# Altium schematic symbol library PDU_YEDEK.SchLib: 83 symbols (part 6 of 10)
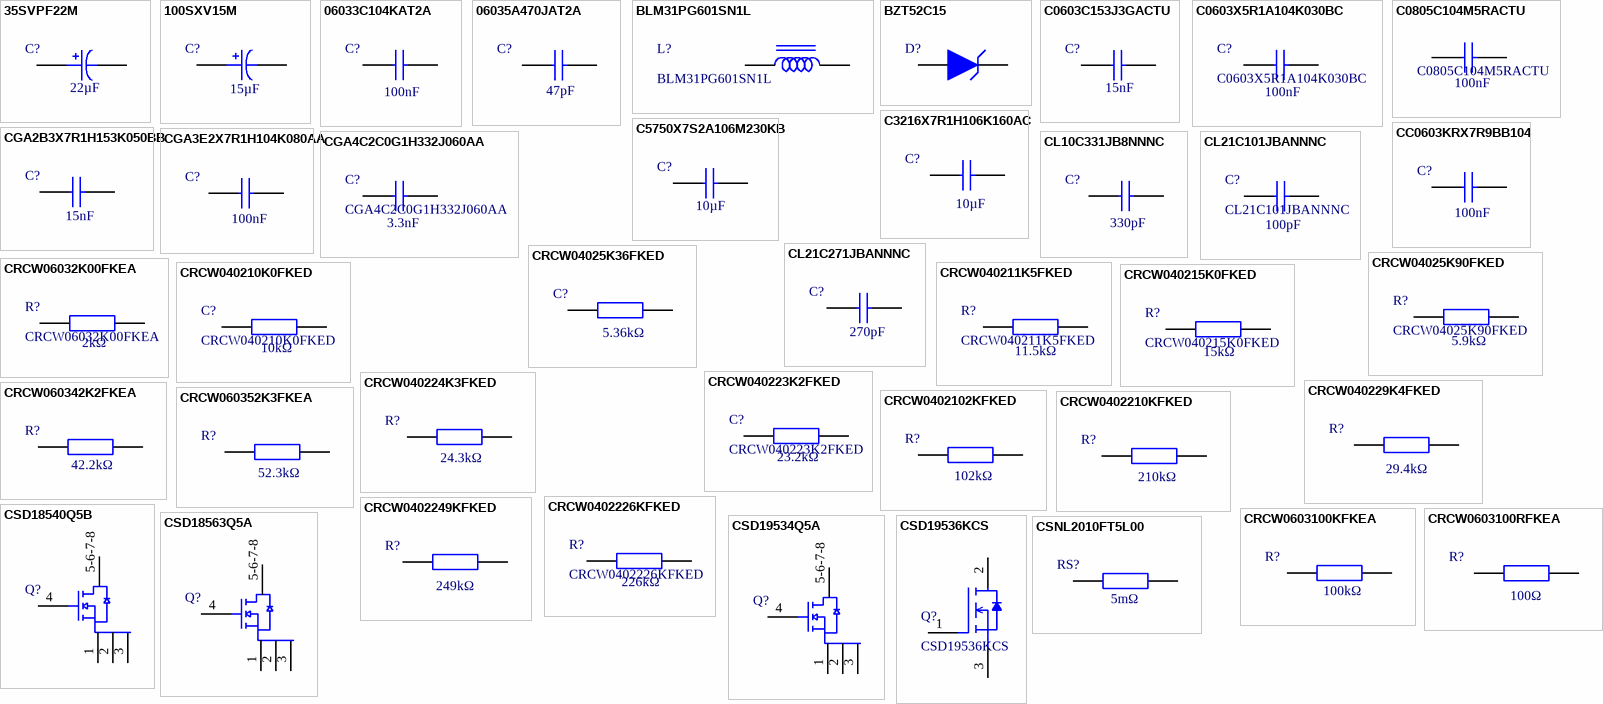
[diagram p7: symbols 35SVPF22M to CSNL2010FT5L00]

## CSD18540Q5B
designator Q?  (value not drawn)
60-V, N channel NexFET™ power MOSFET, single SON 5 mm x 6 mm, 2.2 mOhm 8-VSON-CLIP -55 to 175; Manufacturer: Texas Instruments; Manufacturer Lifecycle Status: ACTIVE; Continuous Drain Current (ID): 29A; Drain to Source Resistance: 1.8mΩ; Drain to Source Voltage (Vdss): 60V; Fall Time: 3ns; Gate to Source Voltage (Vgs): 20V; Input Capacitance: 4.23nF; Max Junction Temperature (Tj): 175°C; Max Power Dissipation: 3.1W; Number of Channels: 1; Power Dissipation: 3.8W; Rds On Max: 2.2mΩ; Rise Time: 9ns; Turn-Off Delay Time: 20ns; Turn-On Delay Time: 6ns; Supplier: Arrow Electronics; Supplier Part Number: CSD18540Q5B; Manufacturer Part Number: CSD18540Q5B; RoHS: Compliant; Category: MOSFETs; Stock: 867; Pricing: 1=2,6866, 10=1,8382, 25=1,8215, 100=1,293, 250=1,2821, 500=1,0204 (USD); Contact Plating: Gold; Element Configuration: Single; Height: 0m; Lead Free: Contains Lead; Length: 5mm; Lifecycle Status: Production; Max Operating Temperature: 175°C; Min Operating Temperature: -55°C; Mounting Technology: Surface Mount; Pins: 8; Packaging: Tape & Reel (TR); Schedule B: 8541290080, 8541290080|8541290080|8541290080|8541290080|8541290080; Thickness: 950µm; Width: 5mm; ComponentLink1URL: https://datasheet.octopart.com:443/CSD18540Q5B-Texas-Instruments-datasheet-41215267.pdf?src-supplier=Texas+Instruments; ComponentLink1Description: https://datasheet.octopart.com:443/CSD18540Q5B-Texas-Instruments-datasheet-41215267.pdf?src-supplier=Texas+Instruments; ComponentLink2URL: https://octopart.com:443/opatz8j6/c1?t=SUskelIlBWIo_nWBJiAx1_ldGWU3oeiOn-EJs-5do1YusiS-JDvlKRrouVl-Y20ao-5z_08mEvz_AeJefeF_pOrLs0WfjhDJ2_xgnnOXWDpra4Cd3mKzckoQ6QanCMAXyB-vVCGNjBMeeyDAJ_8AtgWzG5J-VV0M2AC15IA14uOxBYYbIO1uRZi3YsibPr8OpLgj2-g8ey3MShCBBxtcPxAJXU9zClIpSD2jte82BFzbVJ9hhAzdJsrLZ3RNwxiUfmRI5v2vfH2Xq2tWnkVJNmbpw4R6VYt-2jb8TG9SzpqJvWz5ux_mibd2tkPbQSuE4I96mnLqjONPYMf24_myiaENOmBZXsZhO5Lu3rDJDhrEeNYScROBq6ZJRXBJXpuxfZxAZ_Uv9q79&src-supplier=Texas+Instruments; ComponentLink2Description: https://octopart.com:443/opatz8j6/c1?t=SUskelIlBWIo_nWBJiAx1_ldGWU3oeiOn-EJs-5do1YusiS-JDvlKRrouVl-Y20ao-5z_08mEvz_AeJefeF_pOrLs0WfjhDJ2_xgnnOXWDpra4Cd3mKzckoQ6QanCMAXyB-vVCGNjBMeeyDAJ_8AtgWzG5J-VV0M2AC15IA14uOxBYYbIO1uRZi3YsibPr8OpLgj2-g8ey3MShCBBxtcPxAJXU9zClIpSD2jte82BFzbVJ9hhAzdJsrLZ3RNwxiUfmRI5v2vfH2Xq2tWnkVJNmbpw4R6VYt-2jb8TG9SzpqJvWz5ux_mibd2tkPbQSuE4I96mnLqjONPYMf24_myiaENOmBZXsZhO5Lu3rDJDhrEeNYScROBq6ZJRXBJXpuxfZxAZ_Uv9q79&src-supplier=Texas+Instruments; ComponentLink3URL: https://datasheet.octopart.com:443/CSD18540Q5B-Texas-Instruments-datasheet-27303987.pdf?src-supplier=Texas+Instruments; ComponentLink3Description: https://datasheet.octopart.com:443/CSD18540Q5B-Texas-Instruments-datasheet-27303987.pdf?src-supplier=Texas+Instruments; ComponentLink4URL: https://datasheet.octopart.com:443/CSD18540Q5B-Texas-Instruments-datasheet-145028107.pdf?src-supplier=Arrow.cn; ComponentLink4Description: https://datasheet.octopart.com:443/CSD18540Q5B-Texas-Instruments-datasheet-145028107.pdf?src-supplier=Arrow.cn; ComponentLink5URL: http://sigma.octopart.com:80/reach_statement/Texas-Instruments-company-64.pdf?src-supplier=Compliance+Statements; ComponentLink5Description: http://sigma.octopart.com:80/reach_statement/Texas-Instruments-company-64.pdf?src-supplier=Compliance+Statements; ComponentLink6URL: http://sigma.octopart.com:80/conflict_mineral_statement/Texas-Instruments-company-63.pdf?src-supplier=Compliance+Statements; ComponentLink6Description: http://sigma.octopart.com:80/conflict_mineral_statement/Texas-Instruments-company-63.pdf?src-supplier=Compliance+Statements
pins: 1 S, 2 S, 3 S, 4 G, 5-6-7-8 D

## CSD18563Q5A
designator Q?  (value not drawn)
60-V, N channel NexFET™ power MOSFET, single SON 5 mm x 6 mm, 6.8 mOhm 8-VSONP -55 to 150; Manufacturer: Texas Instruments; Manufacturer Lifecycle Status: ACTIVE; Continuous Drain Current (ID): 15A; Drain to Source Breakdown Voltage: 60V; Drain to Source Resistance: 5.7mΩ; Fall Time: 1.7ns; Gate to Source Voltage (Vgs): 20V; Input Capacitance: 1.5nF; Max Junction Temperature (Tj): 150°C; Max Power Dissipation: 3.2W; Nominal Vgs: 2V; Number of Channels: 1; Rds On Max: 6.8mΩ; Rise Time: 6.3ns; Turn-Off Delay Time: 11.4ns; Turn-On Delay Time: 3.2ns; Supplier: Arrow Electronics; Supplier Part Number: CSD18563Q5A; Manufacturer Part Number: CSD18563Q5A; RoHS: Compliant; Category: MOSFETs; Stock: 310; Pricing: 1=1,8015, 10=1,1755, 25=1,153, 100=0,7897, 250=0,4809 (USD); Case/Package: SMD/SMT; Contact Plating: Tin; Drain to Source Voltage (Vdss): 60V; Element Configuration: Single; Height: 1.1mm; Lead Free: Contains Lead; Length: 4.9mm; Lifecycle Status: Production; Max Operating Temperature: 150°C; Min Operating Temperature: -55°C; Mounting Technology: Surface Mount; Number of Elements: 1; Pins: 8; Power Dissipation: 3.2W; REACH SVHC: No; Schedule B: 8541290080, 8541290080|8541290080|8541290080|8541290080|8541290080; Thickness: 1mm; Threshold Voltage: 2V; Width: 6mm; ComponentLink1URL: https://sigma.octopart.com:443/184372194/technical_drawing/Texas-Instruments-CSD18563Q5A.pdf?src-supplier=Texas+Instruments; ComponentLink1Description: https://sigma.octopart.com:443/184372194/technical_drawing/Texas-Instruments-CSD18563Q5A.pdf?src-supplier=Texas+Instruments; ComponentLink2URL: https://octopart.com:443/opatz8j6/c1?t=cDlHP-nwod-UrTS5MQLBpnpDYKU81KfXZd0WIxwHVyDluJBsD-qzddP2QWeYshZMVLFvn-XXXUKwo92E12vZ99vTC2tuXrARVDgOfcVWHlEWklqGN5tuVZ0larHJnItfrHBea9QDmv9vipM55Nvz6p-GjLR-rQwE0UZqnFc0Fzik9ED-naljrhRUinUxGXB2zY_Vm7YgAsUc4yyz_KvlWjbFS2EmqwPzcjQvljt88dnThRaGs5pTcMpNDCZ9sQhtjnDwdEPZWIy2Ed_tCU4jqxfdHRCg7_eWsHlZMWqOTd8HLFQ2xB1v7dbSuqbTagO1wEqc8I0-XetWFPjRjBDhhXWC8TqTZ-VysNuLBAr14a3cqhDsGdgDzKCCn-w2NiCMrzY4ccQXQDbT&src-supplier=Texas+Instruments; ComponentLink2Description: https://octopart.com:443/opatz8j6/c1?t=cDlHP-nwod-UrTS5MQLBpnpDYKU81KfXZd0WIxwHVyDluJBsD-qzddP2QWeYshZMVLFvn-XXXUKwo92E12vZ99vTC2tuXrARVDgOfcVWHlEWklqGN5tuVZ0larHJnItfrHBea9QDmv9vipM55Nvz6p-GjLR-rQwE0UZqnFc0Fzik9ED-naljrhRUinUxGXB2zY_Vm7YgAsUc4yyz_KvlWjbFS2EmqwPzcjQvljt88dnThRaGs5pTcMpNDCZ9sQhtjnDwdEPZWIy2Ed_tCU4jqxfdHRCg7_eWsHlZMWqOTd8HLFQ2xB1v7dbSuqbTagO1wEqc8I0-XetWFPjRjBDhhXWC8TqTZ-VysNuLBAr14a3cqhDsGdgDzKCCn-w2NiCMrzY4ccQXQDbT&src-supplier=Texas+Instruments; ComponentLink3URL: https://sigma.octopart.com:443/183468693/technical_drawing/Texas-Instruments-CSD18563Q5A.pdf?src-supplier=Texas+Instruments; ComponentLink3Description: https://sigma.octopart.com:443/183468693/technical_drawing/Texas-Instruments-CSD18563Q5A.pdf?src-supplier=Texas+Instruments; ComponentLink4URL: https://datasheet.octopart.com:443/CSD18563Q5A-Texas-Instruments-datasheet-36993140.pdf?src-supplier=Texas+Instruments; ComponentLink4Description: https://datasheet.octopart.com:443/CSD18563Q5A-Texas-Instruments-datasheet-36993140.pdf?src-supplier=Texas+Instruments; ComponentLink5URL: https://datasheet.octopart.com:443/CSD18563Q5A-Texas-Instruments-datasheet-21773002.pdf?src-supplier=Texas+Instruments; ComponentLink5Description: https://datasheet.octopart.com:443/CSD18563Q5A-Texas-Instruments-datasheet-21773002.pdf?src-supplier=Texas+Instruments; ComponentLink6URL: https://datasheet.octopart.com:443/CSD18563Q5A-Texas-Instruments-datasheet-16941254.pdf?src-supplier=Texas+Instruments; ComponentLink6Description: https://datasheet.octopart.com:443/CSD18563Q5A-Texas-Instruments-datasheet-16941254.pdf?src-supplier=Texas+Instruments; ComponentLink7URL: https://datasheet.octopart.com:443/CSD18563Q5A-Texas-Instruments-datasheet-41215268.pdf?src-supplier=Farnell; ComponentLink7Description: https://datasheet.octopart.com:443/CSD18563Q5A-Texas-Instruments-datasheet-41215268.pdf?src-supplier=Farnell; ComponentLink8URL: https://datasheet.octopart.com:443/CSD18563Q5A-Texas-Instruments-datasheet-97084075.pdf?src-supplier=Newark; ComponentLink8Description: https://datasheet.octopart.com:443/CSD18563Q5A-Texas-Instruments-datasheet-97084075.pdf?src-supplier=Newark; ComponentLink9URL: https://datasheet.octopart.com:443/CSD18563Q5A-Texas-Instruments-datasheet-62115722.pdf?src-supplier=Newark; ComponentLink9Description: https://datasheet.octopart.com:443/CSD18563Q5A-Texas-Instruments-datasheet-62115722.pdf?src-supplier=Newark; ComponentLink10URL: https://datasheet.octopart.com:443/CSD18563Q5A-Texas-Instruments-datasheet-33010040.pdf?src-supplier=Newark; ComponentLink10Description: https://datasheet.octopart.com:443/CSD18563Q5A-Texas-Instruments-datasheet-33010040.pdf?src-supplier=Newark; ComponentLink11URL: https://datasheet.octopart.com:443/CSD18563Q5A-Texas-Instruments-datasheet-21220899.pdf?src-supplier=Newark; ComponentLink11Description: https://datasheet.octopart.com:443/CSD18563Q5A-Texas-Instruments-datasheet-21220899.pdf?src-supplier=Newark; ComponentLink12URL: https://datasheet.octopart.com:443/CSD18563Q5A-Texas-Instruments-datasheet-164413840.pdf?src-supplier=Augswan; ComponentLink12Description: https://datasheet.octopart.com:443/CSD18563Q5A-Texas-Instruments-datasheet-164413840.pdf?src-supplier=Augswan; ComponentLink13URL: https://datasheet.octopart.com:443/CSD18563Q5A-Texas-Instruments-datasheet-159114916.pdf?src-supplier=LCSC; ComponentLink13Description: https://datasheet.octopart.com:443/CSD18563Q5A-Texas-Instruments-datasheet-159114916.pdf?src-supplier=LCSC; ComponentLink14URL: https://datasheet.octopart.com:443/CSD18563Q5A-Texas-Instruments-datasheet-142046464.pdf?src-supplier=Arrow.cn; ComponentLink14Description: https://datasheet.octopart.com:443/CSD18563Q5A-Texas-Instruments-datasheet-142046464.pdf?src-supplier=Arrow.cn; ComponentLink15URL: http://sigma.octopart.com:80/reach_statement/Texas-Instruments-company-64.pdf?src-supplier=Compliance+Statements; ComponentLink15Description: http://sigma.octopart.com:80/reach_statement/Texas-Instruments-company-64.pdf?src-supplier=Compliance+Statements; ComponentLink16URL: http://sigma.octopart.com:80/conflict_mineral_statement/Texas-Instruments-company-63.pdf?src-supplier=Compliance+Statements; ComponentLink16Description: http://sigma.octopart.com:80/conflict_mineral_statement/Texas-Instruments-company-63.pdf?src-supplier=Compliance+Statements
pins: 1 S, 2 S, 3 S, 4 G, 5-6-7-8 D

## CSD19534Q5A
designator Q?  (value not drawn)
100-V, N channel NexFET™ power MOSFET, single SON 5 mm x 6 mm, 15.1 mOhm 8-VSONP -55 to 150; Manufacturer: Texas Instruments; Manufacturer Lifecycle Status: ACTIVE; Continuous Drain Current (ID): 10A; Drain to Source Breakdown Voltage: 100V; Drain to Source Resistance: 12.6mΩ; Fall Time: 6ns; Gate to Source Voltage (Vgs): 20V; Input Capacitance: 1.68nF; Max Junction Temperature (Tj): 150°C; Max Power Dissipation: 3.2W; Number of Channels: 1; Rds On Max: 15.1mΩ; Rise Time: 14ns; Turn-Off Delay Time: 20ns; Turn-On Delay Time: 9ns; Supplier: Arrow Electronics; Supplier Part Number: CSD19534Q5A; Manufacturer Part Number: CSD19534Q5A; RoHS: Compliant; Category: MOSFETs; Pricing: 2500=0,3513, 5000=0,3438 (USD); Contact Plating: Tin; Drain to Source Voltage (Vdss): 100V; Element Configuration: Single; Height: 1.1mm; Lead Free: Contains Lead; Length: 4.9mm; Lifecycle Status: Production; Max Operating Temperature: 150°C; Min Operating Temperature: -55°C; Mounting Technology: Surface Mount; Pins: 8; Packaging: Tape & Reel (TR); Power Dissipation: 3.2W; Schedule B: 8541290080, 8541290080|8541290080|8541290080|8541290080|8541290080; Thickness: 1mm; Width: 6mm; ComponentLink1URL: https://sigma.octopart.com:443/184372194/technical_drawing/Texas-Instruments-CSD19534Q5A.pdf?src-supplier=Texas+Instruments; ComponentLink1Description: https://sigma.octopart.com:443/184372194/technical_drawing/Texas-Instruments-CSD19534Q5A.pdf?src-supplier=Texas+Instruments; ComponentLink2URL: https://octopart.com:443/opatz8j6/c1?t=SSdhDRwUEWccND8BYLrNj5wD1DjtHCJGpPp5qL4eDQ_gKDkqciQPO5ZgVlRSX3tJETDLPepYZu7qB-RWFbr__4iawFYiX1x0f3L0zYoZy4CUlTc3azSR3e1lnSN8-jfdVdH1s6CMhBb3JPIXtzs8hm8jvaRxQoLGESKQubNtZgDwPXHZ0ZsYo1Ep0h1d3sd73Ka2YfZZK1yMAljyxNHUS4SSJhdwFE68WOjR8hdkuIs9zH66t5n-H9ix6Idip7XAYAIlOq6p1bYOe5C17hXZrhV6jUGn-XkOCR2RMWOIjiP4mcxejeseXVJw8OcjsJNqLjLvba7cbmD2d5NfNFgZRpXJOQpPM6lP5sEYEm4qar2P0kIdunrrdDakTtcwuIKCkjtN97_GS7kd&src-supplier=Texas+Instruments; ComponentLink2Description: https://octopart.com:443/opatz8j6/c1?t=SSdhDRwUEWccND8BYLrNj5wD1DjtHCJGpPp5qL4eDQ_gKDkqciQPO5ZgVlRSX3tJETDLPepYZu7qB-RWFbr__4iawFYiX1x0f3L0zYoZy4CUlTc3azSR3e1lnSN8-jfdVdH1s6CMhBb3JPIXtzs8hm8jvaRxQoLGESKQubNtZgDwPXHZ0ZsYo1Ep0h1d3sd73Ka2YfZZK1yMAljyxNHUS4SSJhdwFE68WOjR8hdkuIs9zH66t5n-H9ix6Idip7XAYAIlOq6p1bYOe5C17hXZrhV6jUGn-XkOCR2RMWOIjiP4mcxejeseXVJw8OcjsJNqLjLvba7cbmD2d5NfNFgZRpXJOQpPM6lP5sEYEm4qar2P0kIdunrrdDakTtcwuIKCkjtN97_GS7kd&src-supplier=Texas+Instruments; ComponentLink3URL: https://sigma.octopart.com:443/183468693/technical_drawing/Texas-Instruments-CSD19534Q5A.pdf?src-supplier=Texas+Instruments; ComponentLink3Description: https://sigma.octopart.com:443/183468693/technical_drawing/Texas-Instruments-CSD19534Q5A.pdf?src-supplier=Texas+Instruments; ComponentLink4URL: https://datasheet.octopart.com:443/CSD19534Q5A-Texas-Instruments-datasheet-37708650.pdf?src-supplier=Texas+Instruments; ComponentLink4Description: https://datasheet.octopart.com:443/CSD19534Q5A-Texas-Instruments-datasheet-37708650.pdf?src-supplier=Texas+Instruments; ComponentLink5URL: https://datasheet.octopart.com:443/CSD19534Q5A-Texas-Instruments-datasheet-26524818.pdf?src-supplier=Texas+Instruments; ComponentLink5Description: https://datasheet.octopart.com:443/CSD19534Q5A-Texas-Instruments-datasheet-26524818.pdf?src-supplier=Texas+Instruments; ComponentLink6URL: https://datasheet.octopart.com:443/CSD19534Q5A-Texas-Instruments-datasheet-164413853.pdf?src-supplier=Augswan; ComponentLink6Description: https://datasheet.octopart.com:443/CSD19534Q5A-Texas-Instruments-datasheet-164413853.pdf?src-supplier=Augswan; ComponentLink7URL: https://datasheet.octopart.com:443/CSD19534Q5A-Texas-Instruments-datasheet-159114918.pdf?src-supplier=LCSC; ComponentLink7Description: https://datasheet.octopart.com:443/CSD19534Q5A-Texas-Instruments-datasheet-159114918.pdf?src-supplier=LCSC; ComponentLink8URL: https://datasheet.octopart.com:443/CSD19534Q5A-Texas-Instruments-datasheet-142266150.pdf?src-supplier=Arrow.cn; ComponentLink8Description: https://datasheet.octopart.com:443/CSD19534Q5A-Texas-Instruments-datasheet-142266150.pdf?src-supplier=Arrow.cn; ComponentLink9URL: http://sigma.octopart.com:80/reach_statement/Texas-Instruments-company-64.pdf?src-supplier=Compliance+Statements; ComponentLink9Description: http://sigma.octopart.com:80/reach_statement/Texas-Instruments-company-64.pdf?src-supplier=Compliance+Statements; ComponentLink10URL: http://sigma.octopart.com:80/conflict_mineral_statement/Texas-Instruments-company-63.pdf?src-supplier=Compliance+Statements; ComponentLink10Description: http://sigma.octopart.com:80/conflict_mineral_statement/Texas-Instruments-company-63.pdf?src-supplier=Compliance+Statements
pins: 1 S, 2 S, 3 S, 4 G, 5-6-7-8 D

## CSD19536KCS
designator Q?
100-V, N channel NexFET™ power MOSFET, single TO-220, 2.7 mOhm 3-TO-220 -55 to 175; Manufacturer: Texas Instruments; Manufacturer Lifecycle Status: ACTIVE; Continuous Drain Current (ID): 259A; Drain to Source Breakdown Voltage: 100V; Drain to Source Resistance: 2.3mΩ; Fall Time: 5ns; Gate to Source Voltage (Vgs): 20V; Input Capacitance: 12nF; Max Junction Temperature (Tj): 175°C; Max Power Dissipation: 375W; Number of Channels: 1; Rds On Max: 2.7mΩ; Rise Time: 8ns; Threshold Voltage: 2.5V; Turn-Off Delay Time: 38ns; Turn-On Delay Time: 14ns; Supplier: Mouser; Supplier Part Number: 595-CSD19536KCS; Manufacturer Part Number: CSD19536KCS; RoHS: Compliant; Category: MOSFETs; Stock: 1183; Pricing: 1=5,13, 10=2,81, 50=2,81, 100=2,55, 1000=2,3, 10000=2,3 (USD); Case/Package: TO-220; Contact Plating: Tin; Drain to Source Voltage (Vdss): 100V; Element Configuration: Single; Height: 4.7mm; Lead Free: Lead Free; Length: 10.16mm; Lifecycle Status: Production; Max Operating Temperature: 175°C; Min Operating Temperature: -55°C; Mounting Technology: Through Hole; Pins: 3; Power Dissipation: 375W; REACH SVHC: No; Schedule B: 8541290080, 8541290080|8541290080|8541290080|8541290080|8541290080; Thickness: 4.58mm; Weight: 6.000006g; Width: 8.7mm; ComponentLink1URL: https://octopart.com:443/opatz8j6/c1?t=8S26bGvFoPepz0Ho92YoZTqVc_d5q8Xs-DgVM70Jzez8fRakyliBSYZV_GtEarsq2HyZeIqIhpc9Z0OSGE6VhAFEmf7fmANATc2d_DnGlbAuMqvBiQCcovlrpGmw30bQww9mTsYxjE2nYJYIS-deG4-YIjXykbncNL15QxUWHwrjNoFQMc_1Dj2CsrMmt6HfeOqtQHY7yXCxTjH6WiEdPmiZjqPcMt6wH9QwZE2W0Xjr0XHJbCOm-k3SMU5gMgJ1hxJ2HLeqw-XaZq55DCAJxuI285w2C1z_nOIFUCl7aLfHg906HkR0elXQqLEmhLEnr2-dbRwgY--2aNPrlcANWQfrvm2OMXKgodf597jH-ctOhrBddWaRNJzGPrZD9BYFR-TVJtWFBsN7&src-supplier=Texas+Instruments; ComponentLink1Description: https://octopart.com:443/opatz8j6/c1?t=8S26bGvFoPepz0Ho92YoZTqVc_d5q8Xs-DgVM70Jzez8fRakyliBSYZV_GtEarsq2HyZeIqIhpc9Z0OSGE6VhAFEmf7fmANATc2d_DnGlbAuMqvBiQCcovlrpGmw30bQww9mTsYxjE2nYJYIS-deG4-YIjXykbncNL15QxUWHwrjNoFQMc_1Dj2CsrMmt6HfeOqtQHY7yXCxTjH6WiEdPmiZjqPcMt6wH9QwZE2W0Xjr0XHJbCOm-k3SMU5gMgJ1hxJ2HLeqw-XaZq55DCAJxuI285w2C1z_nOIFUCl7aLfHg906HkR0elXQqLEmhLEnr2-dbRwgY--2aNPrlcANWQfrvm2OMXKgodf597jH-ctOhrBddWaRNJzGPrZD9BYFR-TVJtWFBsN7&src-supplier=Texas+Instruments; ComponentLink2URL: https://sigma.octopart.com:443/114961683/technical_drawing/Texas-Instruments-CSD19536KCS.pdf?src-supplier=Texas+Instruments; ComponentLink2Description: https://sigma.octopart.com:443/114961683/technical_drawing/Texas-Instruments-CSD19536KCS.pdf?src-supplier=Texas+Instruments; ComponentLink3URL: https://sigma.octopart.com:443/49491433/technical_drawing/Texas-Instruments-CSD19536KCS.pdf?src-supplier=Texas+Instruments; ComponentLink3Description: https://sigma.octopart.com:443/49491433/technical_drawing/Texas-Instruments-CSD19536KCS.pdf?src-supplier=Texas+Instruments; ComponentLink4URL: https://datasheet.octopart.com:443/CSD19536KCS-Texas-Instruments-datasheet-21773016.pdf?src-supplier=Texas+Instruments; ComponentLink4Description: https://datasheet.octopart.com:443/CSD19536KCS-Texas-Instruments-datasheet-21773016.pdf?src-supplier=Texas+Instruments; ComponentLink5URL: https://sigma.octopart.com:443/49251896/technical_drawing/Texas-Instruments-CSD19536KCS.pdf?src-supplier=Texas+Instruments; ComponentLink5Description: https://sigma.octopart.com:443/49251896/technical_drawing/Texas-Instruments-CSD19536KCS.pdf?src-supplier=Texas+Instruments; ComponentLink6URL: https://datasheet.octopart.com:443/CSD19536KCS-Texas-Instruments-datasheet-147837784.pdf?src-supplier=Augswan; ComponentLink6Description: https://datasheet.octopart.com:443/CSD19536KCS-Texas-Instruments-datasheet-147837784.pdf?src-supplier=Augswan; ComponentLink7URL: https://datasheet.octopart.com:443/CSD19536KCS-Texas-Instruments-datasheet-32736860.pdf?src-supplier=Farnell; ComponentLink7Description: https://datasheet.octopart.com:443/CSD19536KCS-Texas-Instruments-datasheet-32736860.pdf?src-supplier=Farnell; ComponentLink8URL: https://datasheet.octopart.com:443/CSD19536KCS-Texas-Instruments-datasheet-24895734.pdf?src-supplier=Farnell; ComponentLink8Description: https://datasheet.octopart.com:443/CSD19536KCS-Texas-Instruments-datasheet-24895734.pdf?src-supplier=Farnell; ComponentLink9URL: https://datasheet.octopart.com:443/CSD19536KCS-Texas-Instruments-datasheet-62115734.pdf?src-supplier=Newark; ComponentLink9Description: https://datasheet.octopart.com:443/CSD19536KCS-Texas-Instruments-datasheet-62115734.pdf?src-supplier=Newark; ComponentLink10URL: https://datasheet.octopart.com:443/CSD19536KCS-Texas-Instruments-datasheet-142223648.pdf?src-supplier=Arrow.cn; ComponentLink10Description: https://datasheet.octopart.com:443/CSD19536KCS-Texas-Instruments-datasheet-142223648.pdf?src-supplier=Arrow.cn; ComponentLink11URL: http://sigma.octopart.com:80/reach_statement/Texas-Instruments-company-64.pdf?src-supplier=Compliance+Statements; ComponentLink11Description: http://sigma.octopart.com:80/reach_statement/Texas-Instruments-company-64.pdf?src-supplier=Compliance+Statements; ComponentLink12URL: http://sigma.octopart.com:80/conflict_mineral_statement/Texas-Instruments-company-63.pdf?src-supplier=Compliance+Statements; ComponentLink12Description: http://sigma.octopart.com:80/conflict_mineral_statement/Texas-Instruments-company-63.pdf?src-supplier=Compliance+Statements
pins: 1, 2, 3

## CSNL2010FT5L00
designator RS?  value 5mΩ  (hidden comment: CSNL2010FT5L00)
Res Metal Foil 2010 0.005 Ohm 1% 1.5W ±50ppm/°C Molded SMD SMD Plastic T/R; Manufacturer: Stackpole Electronics; Supplier: Arrow Electronics; Supplier Part Number: CSNL2010FT5L00; Manufacturer Part Number: CSNL2010FT5L00; RoHS: Compliant; Category: Chip SMD Resistors; Stock: 61; Pricing: 1=0,302, 10=0,2557, 25=0,1568 (USD); Case/Package: 2010; Case Code (Imperial): 2010; Case Code (Metric): 5025; Composition: Metal Strip; Contact Plating: Tin; Features: Moisture Resistant; Height: 650µm; Lead Free: Lead Free; Length: 5.08mm; Lifecycle Status: Production; Max Operating Temperature: 170°C; Max Power Dissipation: 1.5W; Min Operating Temperature: -55°C; Mounting Technology: Surface Mount; Number of Terminals: 2; Number of Terminations: 2; Packaging: Cut Tape (CT); Power Rating: 1.5W; Radiation Hardening: No; REACH SVHC: Yes; Schedule B: 8533210045, 8533210045|8533210045, 8533210045|8533210045|8533210045, 8533210045|8533210045|8533210045|8533210045; Temperature Coefficient: 50ppm/°C; Tolerance: 1%; Width: 2.54mm; ComponentLink1URL: https://datasheet.octopart.com:443/CSNL2010FT5L00-Stackpole-Electronics-datasheet-141193808.pdf?src-supplier=Master+Electronics; ComponentLink1Description: https://datasheet.octopart.com:443/CSNL2010FT5L00-Stackpole-Electronics-datasheet-141193808.pdf?src-supplier=Master+Electronics; ComponentLink2URL: https://datasheet.octopart.com:443/CSNL2010FT5L00-Stackpole-Electronics-datasheet-182147900.pdf?src-supplier=IHS; ComponentLink2Description: https://datasheet.octopart.com:443/CSNL2010FT5L00-Stackpole-Electronics-datasheet-182147900.pdf?src-supplier=IHS; ComponentLink3URL: https://datasheet.octopart.com:443/CSNL2010FT5L00-Stackpole-Electronics-datasheet-141158293.pdf?src-supplier=Stackpole+Electronics; ComponentLink3Description: https://datasheet.octopart.com:443/CSNL2010FT5L00-Stackpole-Electronics-datasheet-141158293.pdf?src-supplier=Stackpole+Electronics; ComponentLink4URL: https://datasheet.octopart.com:443/CSNL2010FT5L00-Stackpole-Electronics-datasheet-10788535.pdf?src-supplier=Stackpole+Electronics; ComponentLink4Description: https://datasheet.octopart.com:443/CSNL2010FT5L00-Stackpole-Electronics-datasheet-10788535.pdf?src-supplier=Stackpole+Electronics; ComponentLink5URL: https://datasheet.octopart.com:443/CSNL2010FT5L00-Stackpole-Electronics-datasheet-62316127.pdf?src-supplier=Future+Electronics; ComponentLink5Description: https://datasheet.octopart.com:443/CSNL2010FT5L00-Stackpole-Electronics-datasheet-62316127.pdf?src-supplier=Future+Electronics; ComponentLink6URL: http://sigma.octopart.com:80/15940492/materials_sheet/Stackpole-Electronics-CSNL2010FT5L00.pdf?src-supplier=Compliance+Statements; ComponentLink6Description: http://sigma.octopart.com:80/15940492/materials_sheet/Stackpole-Electronics-CSNL2010FT5L00.pdf?src-supplier=Compliance+Statements; ComponentLink7URL: http://sigma.octopart.com:80/141158211/reach_statement/Stackpole-Electronics-CSNL2010FT5L00.pdf?src-supplier=Compliance+Statements; ComponentLink7Description: http://sigma.octopart.com:80/141158211/reach_statement/Stackpole-Electronics-CSNL2010FT5L00.pdf?src-supplier=Compliance+Statements; ComponentLink8URL: http://sigma.octopart.com:80/141158212/rohs_statement/Stackpole-Electronics-CSNL2010FT5L00.pdf?src-supplier=Compliance+Statements; ComponentLink8Description: http://sigma.octopart.com:80/141158212/rohs_statement/Stackpole-Electronics-CSNL2010FT5L00.pdf?src-supplier=Compliance+Statements
pins: 1, 2

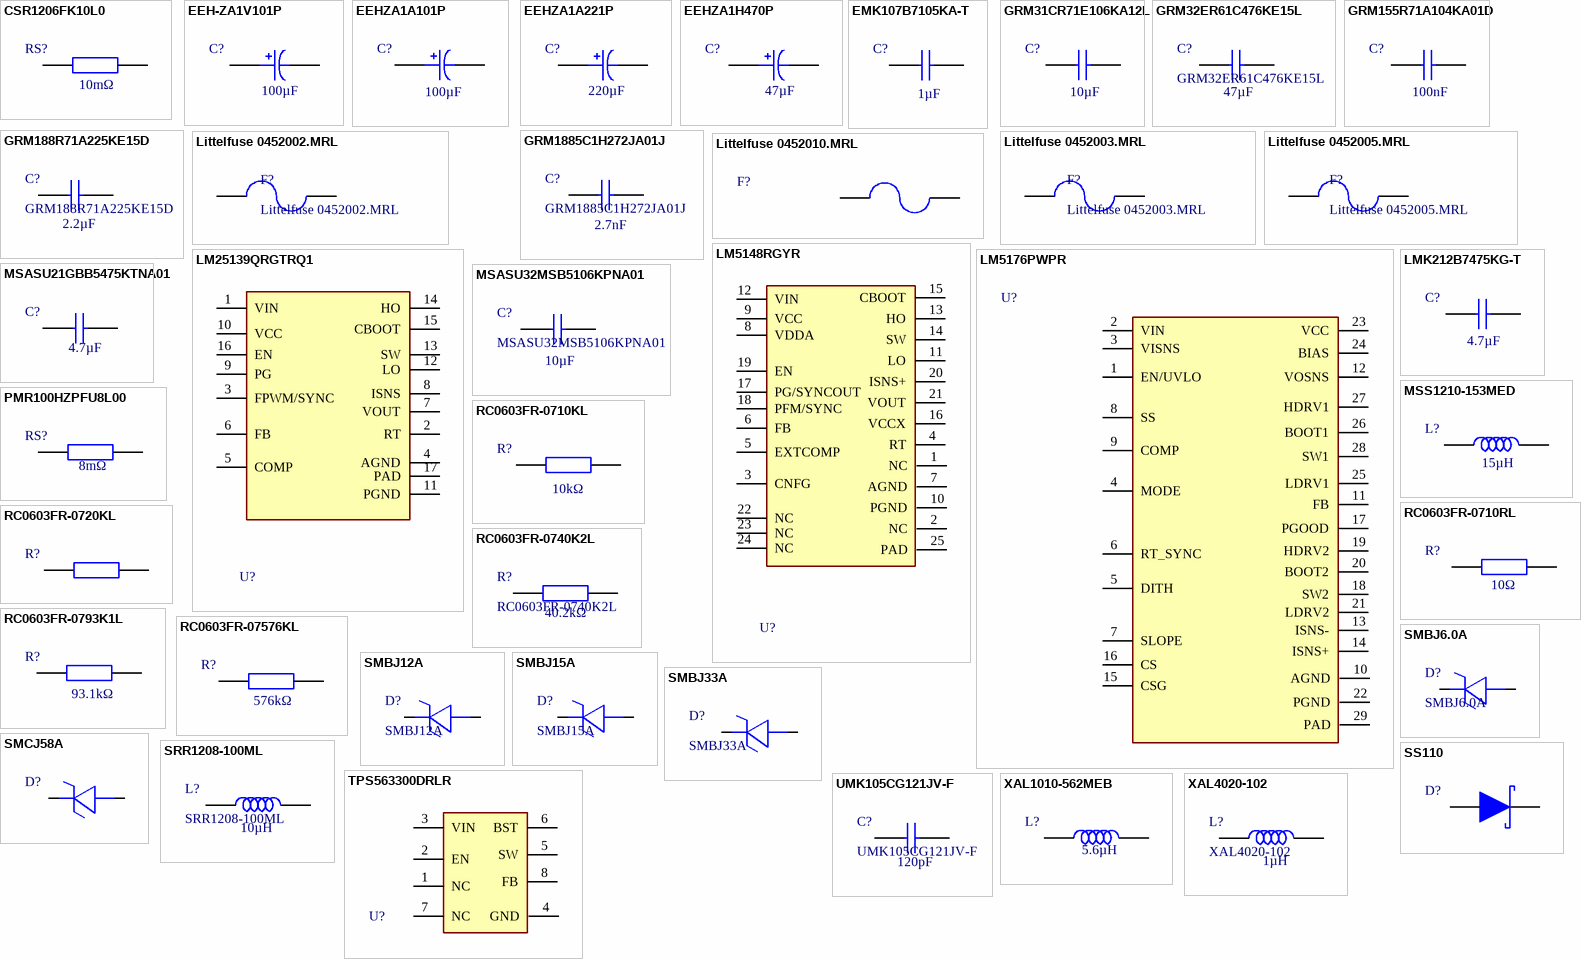
[diagram p1: symbols CSR1206FK10L0 to XAL4020‑102]

## CSR1206FK10L0
designator RS?  value 10mΩ  (hidden comment: CSR1206FK10L0)
Res Thick Film 1206 0.01 Ohm 1% 1/2W Molded SMD Paper T/R; Manufacturer: Stackpole Electronics; Max Power Dissipation: 500mW; Temperature Coefficient: 100ppm/°C; Working Voltage: 70.7mV; Supplier: Avnet; Supplier Part Number: CSR1206FK10L0; Manufacturer Part Number: CSR1206FK10L0; RoHS: Compliant; Category: Chip SMD Resistors; Stock: 53000; Pricing: 1000=0,102, 2000=0,1005, 4000=0,099, 8000=0,0975, 16000=0,096 (USD); Case/Package: 1206; Case Code (Imperial): 1206; Case Code (Metric): 3216; Composition: Thick Film; Contact Plating: Tin; Depth: 1.55mm; Height: 550µm; Lead Free: Lead Free; Length: 3.05mm; Lifecycle Status: Production; Max Operating Temperature: 155°C; Military Standard: Not; Min Operating Temperature: -55°C; Mounting Technology: Surface Mount; Number of Terminals: 2; Number of Terminations: 2; Packaging: Cut Tape (CT); Power Rating: 500mW; Radiation Hardening: No; REACH SVHC: Yes; Schedule B: 8533210045, 8533210045|8533210045, 8533210045|8533210045|8533210045, 8533210045|8533210045|8533210045|8533210045; Tolerance: 1%; Width: 1.55mm; ComponentLink1URL: https://datasheet.octopart.com:443/CSR1206FK10L0-Stackpole-Electronics-datasheet-170576569.pdf?src-supplier=IHS; ComponentLink1Description: https://datasheet.octopart.com:443/CSR1206FK10L0-Stackpole-Electronics-datasheet-170576569.pdf?src-supplier=IHS; ComponentLink2URL: https://datasheet.octopart.com:443/CSR1206FK10L0-Stackpole-Electronics-datasheet-12549637.pdf?src-supplier=Upverter; ComponentLink2Description: https://datasheet.octopart.com:443/CSR1206FK10L0-Stackpole-Electronics-datasheet-12549637.pdf?src-supplier=Upverter; ComponentLink3URL: https://datasheet.octopart.com:443/CSR1206FK10L0-Stackpole-Electronics-datasheet-12522144.pdf?src-supplier=Upverter; ComponentLink3Description: https://datasheet.octopart.com:443/CSR1206FK10L0-Stackpole-Electronics-datasheet-12522144.pdf?src-supplier=Upverter; ComponentLink4URL: https://datasheet.octopart.com:443/CSR1206FK10L0-Stackpole-Electronics-datasheet-141193797.pdf?src-supplier=Master+Electronics; ComponentLink4Description: https://datasheet.octopart.com:443/CSR1206FK10L0-Stackpole-Electronics-datasheet-141193797.pdf?src-supplier=Master+Electronics; ComponentLink5URL: https://datasheet.octopart.com:443/CSR1206FK10L0-Stackpole-Electronics-datasheet-10788265.pdf?src-supplier=Future+Electronics; ComponentLink5Description: https://datasheet.octopart.com:443/CSR1206FK10L0-Stackpole-Electronics-datasheet-10788265.pdf?src-supplier=Future+Electronics; ComponentLink6URL: https://datasheet.octopart.com:443/CSR1206FK10L0-Stackpole-Electronics-datasheet-130008997.pdf?src-supplier=Future+Electronics; ComponentLink6Description: https://datasheet.octopart.com:443/CSR1206FK10L0-Stackpole-Electronics-datasheet-130008997.pdf?src-supplier=Future+Electronics; ComponentLink7URL: https://datasheet.octopart.com:443/CSR1206FK10L0-Stackpole-Electronics-datasheet-5395846.pdf?src-supplier=Future+Electronics; ComponentLink7Description: https://datasheet.octopart.com:443/CSR1206FK10L0-Stackpole-Electronics-datasheet-5395846.pdf?src-supplier=Future+Electronics; ComponentLink8URL: https://datasheet.octopart.com:443/CSR1206FK10L0-Stackpole-Electronics-datasheet-608071.pdf?src-supplier=Stackpole+Electronics; ComponentLink8Description: https://datasheet.octopart.com:443/CSR1206FK10L0-Stackpole-Electronics-datasheet-608071.pdf?src-supplier=Stackpole+Electronics; ComponentLink9URL: https://datasheet.octopart.com:443/CSR1206FK10L0-Stackpole-Electronics-datasheet-11781806.pdf?src-supplier=Arrow+Electronics; ComponentLink9Description: https://datasheet.octopart.com:443/CSR1206FK10L0-Stackpole-Electronics-datasheet-11781806.pdf?src-supplier=Arrow+Electronics; ComponentLink10URL: http://sigma.octopart.com:80/15940493/materials_sheet/Stackpole-Electronics-CSR1206FK10L0.pdf?src-supplier=Compliance+Statements; ComponentLink10Description: http://sigma.octopart.com:80/15940493/materials_sheet/Stackpole-Electronics-CSR1206FK10L0.pdf?src-supplier=Compliance+Statements; ComponentLink11URL: http://sigma.octopart.com:80/141158212/rohs_statement/Stackpole-Electronics-CSR1206FK10L0.pdf?src-supplier=Compliance+Statements; ComponentLink11Description: http://sigma.octopart.com:80/141158212/rohs_statement/Stackpole-Electronics-CSR1206FK10L0.pdf?src-supplier=Compliance+Statements; ComponentLink12URL: http://sigma.octopart.com:80/141158211/reach_statement/Stackpole-Electronics-CSR1206FK10L0.pdf?src-supplier=Compliance+Statements; ComponentLink12Description: http://sigma.octopart.com:80/141158211/reach_statement/Stackpole-Electronics-CSR1206FK10L0.pdf?src-supplier=Compliance+Statements
pins: 1, 2

## EEH-ZA1V101P
designator C?  value 100µF  (hidden comment: EEH-ZA1V101P)
Conductive Polymer Hybrid Aluminum Electrolytic Capacitors, 100µF, 35V, -55 to 105¡C; Manufacturer: Panasonic; Manufacturer Lifecycle Status: ACTIVE; Part Series: ZA (High temp. reflow); ESR (Equivalent Series Resistance): 27mΩ; Leakage Current: 35µA; Life (Hours): 10000hours; Ripple Current: 2.3A; Tolerance: 20%; Supplier: Future Electronics; Supplier Part Number: EEH-ZA1V101P; Manufacturer Part Number: EEH-ZA1V101P; RoHS: Compliant; Category: Polymer Capacitors; Stock: 1000; Pricing: 500=0,335, 1000=0,33, 1500=0,325, 5000=0,315 (USD); ComponentLink1URL: https://datasheet.octopart.com:443/EEH-ZA1V101P-Panasonic-datasheet-136612405.pdf?src-supplier=Electro+Sonic; ComponentLink1Description: https://datasheet.octopart.com:443/EEH-ZA1V101P-Panasonic-datasheet-136612405.pdf?src-supplier=Electro+Sonic; ComponentLink2URL: https://datasheet.octopart.com:443/EEH-ZA1V101P-Panasonic-datasheet-154840537.pdf?src-supplier=Electro+Sonic; ComponentLink2Description: https://datasheet.octopart.com:443/EEH-ZA1V101P-Panasonic-datasheet-154840537.pdf?src-supplier=Electro+Sonic; ComponentLink3URL: https://datasheet.octopart.com:443/EEH-ZA1V101P-Panasonic-datasheet-68301292.pdf?src-supplier=Future+Electronics; ComponentLink3Description: https://datasheet.octopart.com:443/EEH-ZA1V101P-Panasonic-datasheet-68301292.pdf?src-supplier=Future+Electronics; Case/Package: 3333; Country of Origin: Japan; Diameter: 8mm; Export Control Classification Number (ECCN) Code: EAR99; Height: 10.2mm; Harmonized Tariff Schedule (HTS) Code: 8532.22.00.20; Introduction Date: 2019-05-31; Length: 10.2mm; Lifecycle Status: Production; Material: Polymer; Max Operating Temperature: 105°C; Min Operating Temperature: -55°C; Mounting Technology: Surface Mount; Number of Terminals: 2; Ratings: AEC-Q200; REACH SVHC: Yes; Voltage Rating: 35V; Voltage Rating (DC): 35V; Width: 8.3mm; ComponentLink4URL: https://datasheet.octopart.com:443/EEHZA1V101P-Panasonic-datasheet-68301292.pdf?src-supplier=Panasonic; ComponentLink4Description: https://datasheet.octopart.com:443/EEHZA1V101P-Panasonic-datasheet-68301292.pdf?src-supplier=Panasonic; ComponentLink5URL: https://datasheet.octopart.com:443/EEHZA1V101P-Panasonic-datasheet-137675046.pdf?src-supplier=TME; ComponentLink5Description: https://datasheet.octopart.com:443/EEHZA1V101P-Panasonic-datasheet-137675046.pdf?src-supplier=TME
pins: 1, 2

## EEHZA1A101P
designator C?  value 100µF  (hidden comment: EEHZA1A101P)
Cap Aluminum 100uF 50V 20% (10 X 10.2mm) SMD 0.028 Ohm 2000mA 5000 hr 105°C Embossed T/R; Manufacturer: Panasonic; Manufacturer Part Number: EEHZA1H101P; Manufacturer Lifecycle Status: ACTIVE; Part Series: ZA (High temp. reflow); Dissipation Factor: 10%; ESR (Equivalent Series Resistance): 28mΩ; Lead Diameter: 900µm; Leakage Current: 50µA; Life (Hours): 10000hours; Material: Polymer; Polarity: Polar; Ripple Current: 2A; Supplier: Farnell; Supplier Part Number: EEHZA1H101P; RoHS: Compliant; Category: Aluminum Electrolytic Capacitors; Stock: 22500; Pricing: 500=0,697 (EUR); Case/Package: Radial; Country of Origin: Japan; Diameter: 10mm; Export Control Classification Number (ECCN) Code: EAR99; Height: 10.2mm; Height - Seated (Max): 10.4902mm; Harmonized Tariff Schedule (HTS) Code: 8532.22.00.20; Introduction Date: 2012-02-01; Lead Free: Lead Free; Lead Pitch: 4.6mm; Length: 10.2mm; Lifecycle Status: Production; Max Operating Temperature: 105°C; Min Operating Temperature: -55°C; Mounting Technology: Surface Mount; Number of Terminals: 2; Packaging: Cut Tape; Radiation Hardening: No; Ratings: AEC-Q200; REACH SVHC: Yes; Ripple Current (AC): 2A; Schedule B: 8532220020, 8532220020|8532220020|8532220020|8532220020|8532220020; Termination: SMD/SMT; Tolerance: 20%; Voltage: 50V; Voltage Rating: 50V; Voltage Rating (DC): 50V; Width: 10.3mm; ComponentLink1URL: https://datasheet.octopart.com:443/EEHZA1H101P-Panasonic-datasheet-182101003.pdf?src-supplier=IHS; ComponentLink1Description: https://datasheet.octopart.com:443/EEHZA1H101P-Panasonic-datasheet-182101003.pdf?src-supplier=IHS; ComponentLink2URL: https://datasheet.octopart.com:443/EEHZA1H101P-Panasonic-datasheet-68301292.pdf?src-supplier=ODG+(Origin+Data+Global); ComponentLink2Description: https://datasheet.octopart.com:443/EEHZA1H101P-Panasonic-datasheet-68301292.pdf?src-supplier=ODG+(Origin+Data+Global); ComponentLink3URL: https://sigma.octopart.com:443/138706047/technical_drawing/Panasonic-EEHZA1H101P.pdf?src-supplier=Upverter; ComponentLink3Description: https://sigma.octopart.com:443/138706047/technical_drawing/Panasonic-EEHZA1H101P.pdf?src-supplier=Upverter; ComponentLink4URL: https://datasheet.octopart.com:443/EEH-ZA1H101P-Panasonic-datasheet-62139177.pdf?src-supplier=Upverter; ComponentLink4Description: https://datasheet.octopart.com:443/EEH-ZA1H101P-Panasonic-datasheet-62139177.pdf?src-supplier=Upverter; ComponentLink5URL: https://datasheet.octopart.com:443/EEHZA1H101P-Panasonic-datasheet-10883188.pdf?src-supplier=Electro+Sonic; ComponentLink5Description: https://datasheet.octopart.com:443/EEHZA1H101P-Panasonic-datasheet-10883188.pdf?src-supplier=Electro+Sonic; ComponentLink6URL: https://datasheet.octopart.com:443/EEH-ZA1H101P-Panasonic-datasheet-41972975.pdf?src-supplier=Electro+Sonic; ComponentLink6Description: https://datasheet.octopart.com:443/EEH-ZA1H101P-Panasonic-datasheet-41972975.pdf?src-supplier=Electro+Sonic; ComponentLink7URL: https://datasheet.octopart.com:443/EEH-ZA1H101P-Panasonic-datasheet-41178975.pdf?src-supplier=Electro+Sonic; ComponentLink7Description: https://datasheet.octopart.com:443/EEH-ZA1H101P-Panasonic-datasheet-41178975.pdf?src-supplier=Electro+Sonic; ComponentLink8URL: https://datasheet.octopart.com:443/EEH-ZA1H101P-Panasonic-datasheet-154766140.pdf?src-supplier=JRH+Electronics; ComponentLink8Description: https://datasheet.octopart.com:443/EEH-ZA1H101P-Panasonic-datasheet-154766140.pdf?src-supplier=JRH+Electronics; ComponentLink9URL: https://datasheet.octopart.com:443/EEHZA1H101P-Panasonic-datasheet-136612405.pdf?src-supplier=Newark; ComponentLink9Description: https://datasheet.octopart.com:443/EEHZA1H101P-Panasonic-datasheet-136612405.pdf?src-supplier=Newark; ComponentLink10URL: https://datasheet.octopart.com:443/EEHZA1H101P-Panasonic-datasheet-61627650.pdf?src-supplier=Newark; ComponentLink10Description: https://datasheet.octopart.com:443/EEHZA1H101P-Panasonic-datasheet-61627650.pdf?src-supplier=Newark; ComponentLink11URL: https://datasheet.octopart.com:443/EEH-ZA1H101P-Panasonic-datasheet-16044608.pdf?src-supplier=RS+(Formerly+Allied+Electronics); ComponentLink11Description: https://datasheet.octopart.com:443/EEH-ZA1H101P-Panasonic-datasheet-16044608.pdf?src-supplier=RS+(Formerly+Allied+Electronics); ComponentLink12URL: https://datasheet.octopart.com:443/EEH-ZA1H101P-Panasonic-datasheet-23757480.pdf?src-supplier=RS+(Formerly+Allied+Electronics); ComponentLink12Description: https://datasheet.octopart.com:443/EEH-ZA1H101P-Panasonic-datasheet-23757480.pdf?src-supplier=RS+(Formerly+Allied+Electronics); ComponentLink13URL: https://datasheet.octopart.com:443/EEHZA1H101P-Panasonic-datasheet-137675046.pdf?src-supplier=TME; ComponentLink13Description: https://datasheet.octopart.com:443/EEHZA1H101P-Panasonic-datasheet-137675046.pdf?src-supplier=TME
pins: 1, 2

## EEHZA1A221P
designator C?  value 220µF  (hidden comment: EEHZA1A221P)
SMD Polymer Hybrid Aluminum Electrolytic Capacitor, 220uF, 25V, 20%; Manufacturer: Panasonic; Manufacturer Part Number: EEHZA1E221P; Manufacturer Lifecycle Status: ACTIVE; Part Series: ZA (High temp. reflow); Dissipation Factor: 14%; ESR (Equivalent Series Resistance): 27mΩ; Lead Diameter: 900µm; Leakage Current: 55µA; Life (Hours): 10000hours; Ripple Current: 2.3A; Supplier: Farnell; Supplier Part Number: EEHZA1E221P; RoHS: Compliant; Category: Aluminum Electrolytic Capacitors; Stock: 500; Pricing: 500=0,529 (EUR); Case/Package: 3333; Country of Origin: Japan; Diameter: 8mm; Export Control Classification Number (ECCN) Code: EAR99; Height: 10.2mm; Height - Seated (Max): 10.4902mm; Harmonized Tariff Schedule (HTS) Code: 8532.22.00.20; Introduction Date: 2012-02-01; Lead Free: Lead Free; Lead Pitch: 3.1mm; Length: 10.2mm; Lifecycle Status: Production; Material: Polymer; Max Operating Temperature: 105°C; Min Operating Temperature: -55°C; Mounting Technology: Surface Mount; Number of Terminals: 2; Packaging: Cut Tape; Radiation Hardening: No; Ratings: AEC-Q200; REACH SVHC: Yes; Ripple Current (AC): 2.3A; Schedule B: 8532220020, 8532220020|8532220020|8532220020|8532220020|8532220020; Termination: SMD/SMT; Tolerance: 20%; Voltage: 25V; Voltage Rating: 25V; Voltage Rating (DC): 25V; Width: 8.3mm; ComponentLink1URL: https://datasheet.octopart.com:443/EEHZA1E221P-Panasonic-datasheet-182101003.pdf?src-supplier=IHS; ComponentLink1Description: https://datasheet.octopart.com:443/EEHZA1E221P-Panasonic-datasheet-182101003.pdf?src-supplier=IHS; ComponentLink2URL: https://datasheet.octopart.com:443/EEHZA1E221P-Panasonic-datasheet-68301292.pdf?src-supplier=ODG+(Origin+Data+Global); ComponentLink2Description: https://datasheet.octopart.com:443/EEHZA1E221P-Panasonic-datasheet-68301292.pdf?src-supplier=ODG+(Origin+Data+Global); ComponentLink3URL: https://datasheet.octopart.com:443/EEHZA1E221P-Panasonic-datasheet-10883188.pdf?src-supplier=Electro+Sonic; ComponentLink3Description: https://datasheet.octopart.com:443/EEHZA1E221P-Panasonic-datasheet-10883188.pdf?src-supplier=Electro+Sonic; ComponentLink4URL: https://datasheet.octopart.com:443/EEH-ZA1E221P-Panasonic-datasheet-16044608.pdf?src-supplier=Electro+Sonic; ComponentLink4Description: https://datasheet.octopart.com:443/EEH-ZA1E221P-Panasonic-datasheet-16044608.pdf?src-supplier=Electro+Sonic; ComponentLink5URL: https://datasheet.octopart.com:443/EEH-ZA1E221P-Panasonic-datasheet-41972975.pdf?src-supplier=Electro+Sonic; ComponentLink5Description: https://datasheet.octopart.com:443/EEH-ZA1E221P-Panasonic-datasheet-41972975.pdf?src-supplier=Electro+Sonic; ComponentLink6URL: https://datasheet.octopart.com:443/EEH-ZA1E221P-Panasonic-datasheet-41178975.pdf?src-supplier=Electro+Sonic; ComponentLink6Description: https://datasheet.octopart.com:443/EEH-ZA1E221P-Panasonic-datasheet-41178975.pdf?src-supplier=Electro+Sonic; ComponentLink7URL: https://datasheet.octopart.com:443/EEH-ZA1E221P-Panasonic-datasheet-154766140.pdf?src-supplier=JRH+Electronics; ComponentLink7Description: https://datasheet.octopart.com:443/EEH-ZA1E221P-Panasonic-datasheet-154766140.pdf?src-supplier=JRH+Electronics; ComponentLink8URL: https://datasheet.octopart.com:443/EEHZA1E221P-Panasonic-datasheet-136612405.pdf?src-supplier=Farnell; ComponentLink8Description: https://datasheet.octopart.com:443/EEHZA1E221P-Panasonic-datasheet-136612405.pdf?src-supplier=Farnell; ComponentLink9URL: https://datasheet.octopart.com:443/EEHZA1E221P-Panasonic-datasheet-102492116.pdf?src-supplier=Newark; ComponentLink9Description: https://datasheet.octopart.com:443/EEHZA1E221P-Panasonic-datasheet-102492116.pdf?src-supplier=Newark; ComponentLink10URL: https://datasheet.octopart.com:443/EEHZA1E221P-Panasonic-datasheet-61627650.pdf?src-supplier=Newark; ComponentLink10Description: https://datasheet.octopart.com:443/EEHZA1E221P-Panasonic-datasheet-61627650.pdf?src-supplier=Newark; ComponentLink11URL: https://datasheet.octopart.com:443/EEHZA1E221P-Panasonic-datasheet-137675046.pdf?src-supplier=TME; ComponentLink11Description: https://datasheet.octopart.com:443/EEHZA1E221P-Panasonic-datasheet-137675046.pdf?src-supplier=TME; ComponentLink12URL: https://datasheet.octopart.com:443/EEH-ZA1E221P-Panasonic-datasheet-23757480.pdf?src-supplier=RS+(Formerly+Allied+Electronics); ComponentLink12Description: https://datasheet.octopart.com:443/EEH-ZA1E221P-Panasonic-datasheet-23757480.pdf?src-supplier=RS+(Formerly+Allied+Electronics)
pins: 1, 2

## EEHZA1H470P
designator C?  value 47µF  (hidden comment: EEHZA1H470P)
Conductive Polymer Hybrid Aluminum Electrolytic Capacitors, 47µF, 50V, -55 to 105¡C; Manufacturer: Panasonic; Manufacturer Part Number: EEH-ZA1H470P; Manufacturer Lifecycle Status: ACTIVE; Part Series: ZA (High temp. reflow); ESR (Equivalent Series Resistance): 30mΩ; Leakage Current: 23.5µA; Life (Hours): 10000hours; Ripple Current: 1.8A; Tolerance: 20%; Supplier: Farnell; Supplier Part Number: EEHZA1H470P; RoHS: Compliant; Category: Aluminum Electrolytic Capacitors; Stock: 93; Pricing: 1=1,14, 10=0,637, 50=0,607, 100=0,576, 200=0,528, 500=0,479 (EUR); Case/Package: 3333; Country of Origin: Japan; Diameter: 8mm; Export Control Classification Number (ECCN) Code: EAR99; Height: 10.2mm; Harmonized Tariff Schedule (HTS) Code: 8532.22.00.20; Introduction Date: 2019-05-31; Length: 10.2mm; Lifecycle Status: Production; Material: Polymer; Max Operating Temperature: 105°C; Min Operating Temperature: -55°C; Mounting Technology: Surface Mount; Number of Terminals: 2; Ratings: AEC-Q200; REACH SVHC: Yes; Voltage Rating: 50V; Voltage Rating (DC): 50V; Width: 8.3mm; ComponentLink1URL: https://datasheet.octopart.com:443/EEH-ZA1H470P-Panasonic-datasheet-68301292.pdf?src-supplier=Panasonic; ComponentLink1Description: https://datasheet.octopart.com:443/EEH-ZA1H470P-Panasonic-datasheet-68301292.pdf?src-supplier=Panasonic; ComponentLink2URL: https://datasheet.octopart.com:443/EEH-ZA1H470P-Panasonic-datasheet-136612405.pdf?src-supplier=Electro+Sonic; ComponentLink2Description: https://datasheet.octopart.com:443/EEH-ZA1H470P-Panasonic-datasheet-136612405.pdf?src-supplier=Electro+Sonic; ComponentLink3URL: https://datasheet.octopart.com:443/EEHZA1H470P-Panasonic-datasheet-137675046.pdf?src-supplier=TME; ComponentLink3Description: https://datasheet.octopart.com:443/EEHZA1H470P-Panasonic-datasheet-137675046.pdf?src-supplier=TME
pins: 1, 2

## EMK107B7105KA-T
designator C?  value 1µF  (hidden comment: EMK107B7105KA-T)
16V 1uF X7R ±10% 0603 Multilayer Ceramic Capacitors MLCC - SMD/SMT ROHS; Manufacturer: TAIYO YUDEN; Supplier: Avnet; Supplier Part Number: EMK107B7105KA-T; Manufacturer Part Number: EMK107B7105KA-T; RoHS: Compliant; Category: Ceramic Capacitors; Stock: 1408000; Pricing: 4000=0,00792 (USD); Case/Package: 0603; Case Code (Imperial): 0603; Case Code (Metric): 1608; China RoHS: Compliant; Composition: Ceramic; Contact Plating: Nickel; Country of Origin: Japan, Mainland China, Malaysia, South Korea; Depth: 800µm; Dielectric: X7R; Dielectric Material: Ceramic; Export Control Classification Number (ECCN) Code: EAR99; Halogen Free: Halogen Free; Height: 800µm; Harmonized Tariff Schedule (HTS) Code: 8532.24.00.20; Introduction Date: 2007-09-13; Lead Free: Lead Free; Length: 1.6mm; Lifecycle Status: Production; Material: Ceramic; Max Length: 1.7mm; Max Operating Temperature: 125°C; Max Thickness: 900µm; Max Width: 900µm; Min Length: 1.5mm; Min Operating Temperature: -55°C; Min Thickness: 700µm; Min Width: 700µm; Mounting Technology: Surface Mount; Pins: 2; Number of Terminals: 2; Packaging: Cut Tape; Radiation Hardening: No; REACH SVHC: Yes; Termination: SMD/SMT; Thickness: 889µm; Tolerance: 10%; Voltage Rating: 16V; Voltage Rating (DC): 16V; Width: 800µm; ComponentLink1URL: https://datasheet.octopart.com:443/EMK107B7105KA-T-Taiyo-Yuden-datasheet-182102775.pdf?src-supplier=IHS; ComponentLink1Description: https://datasheet.octopart.com:443/EMK107B7105KA-T-Taiyo-Yuden-datasheet-182102775.pdf?src-supplier=IHS; ComponentLink2URL: https://datasheet.octopart.com:443/EMK107B7105KA-T-Taiyo-Yuden-datasheet-8857305.pdf?src-supplier=Master+Electronics; ComponentLink2Description: https://datasheet.octopart.com:443/EMK107B7105KA-T-Taiyo-Yuden-datasheet-8857305.pdf?src-supplier=Master+Electronics; ComponentLink3URL: https://datasheet.octopart.com:443/EMK107B7105KA-T-Taiyo-Yuden-datasheet-154807686.pdf?src-supplier=Master+Electronics; ComponentLink3Description: https://datasheet.octopart.com:443/EMK107B7105KA-T-Taiyo-Yuden-datasheet-154807686.pdf?src-supplier=Master+Electronics; ComponentLink4URL: https://datasheet.octopart.com:443/EMK107B7105KA-T-Taiyo-Yuden-datasheet-140424376.pdf?src-supplier=Master+Electronics; ComponentLink4Description: https://datasheet.octopart.com:443/EMK107B7105KA-T-Taiyo-Yuden-datasheet-140424376.pdf?src-supplier=Master+Electronics; ComponentLink5URL: https://datasheet.octopart.com:443/EMK107B7105KA-T-Taiyo-Yuden-datasheet-151625811.pdf?src-supplier=Farnell; ComponentLink5Description: https://datasheet.octopart.com:443/EMK107B7105KA-T-Taiyo-Yuden-datasheet-151625811.pdf?src-supplier=Farnell; ComponentLink6URL: https://datasheet.octopart.com:443/EMK107B7105KA-T-Taiyo-Yuden-datasheet-65850851.pdf?src-supplier=Newark; ComponentLink6Description: https://datasheet.octopart.com:443/EMK107B7105KA-T-Taiyo-Yuden-datasheet-65850851.pdf?src-supplier=Newark; ComponentLink7URL: https://datasheet.octopart.com:443/EMK107B7105KA-T-Taiyo-Yuden-datasheet-14717454.pdf?src-supplier=Newark; ComponentLink7Description: https://datasheet.octopart.com:443/EMK107B7105KA-T-Taiyo-Yuden-datasheet-14717454.pdf?src-supplier=Newark; ComponentLink8URL: https://datasheet.octopart.com:443/EMK107B7105KA-T-Taiyo-Yuden-datasheet-138738940.pdf?src-supplier=Taiyo+Yuden+SCT; ComponentLink8Description: https://datasheet.octopart.com:443/EMK107B7105KA-T-Taiyo-Yuden-datasheet-138738940.pdf?src-supplier=Taiyo+Yuden+SCT; ComponentLink9URL: https://datasheet.octopart.com:443/EMK107B7105KA-T-Taiyo-Yuden-datasheet-99784766.pdf?src-supplier=Future+Electronics; ComponentLink9Description: https://datasheet.octopart.com:443/EMK107B7105KA-T-Taiyo-Yuden-datasheet-99784766.pdf?src-supplier=Future+Electronics; ComponentLink10URL: https://datasheet.octopart.com:443/EMK107B7105KA-T-Taiyo-Yuden-datasheet-99833418.pdf?src-supplier=Future+Electronics; ComponentLink10Description: https://datasheet.octopart.com:443/EMK107B7105KA-T-Taiyo-Yuden-datasheet-99833418.pdf?src-supplier=Future+Electronics; ComponentLink11URL: https://datasheet.octopart.com:443/CEEMK107B7105KA-T-Taiyo-Yuden-datasheet-62282700.pdf?src-supplier=Electro+Sonic; ComponentLink11Description: https://datasheet.octopart.com:443/CEEMK107B7105KA-T-Taiyo-Yuden-datasheet-62282700.pdf?src-supplier=Electro+Sonic; ComponentLink12URL: https://datasheet.octopart.com:443/EMK107B7105KA-T-Taiyo-Yuden-datasheet-62109223.pdf?src-supplier=Electro+Sonic; ComponentLink12Description: https://datasheet.octopart.com:443/EMK107B7105KA-T-Taiyo-Yuden-datasheet-62109223.pdf?src-supplier=Electro+Sonic; ComponentLink13URL: https://datasheet.octopart.com:443/EMK107B7105KA-T-Taiyo-Yuden-datasheet-41181424.pdf?src-supplier=Electro+Sonic; ComponentLink13Description: https://datasheet.octopart.com:443/EMK107B7105KA-T-Taiyo-Yuden-datasheet-41181424.pdf?src-supplier=Electro+Sonic; ComponentLink14URL: https://datasheet.octopart.com/EMK107B7105KA-T-Taiyo-Yuden-datasheet-17272276.pdf; ComponentLink14Description: https://datasheet.octopart.com/EMK107B7105KA-T-Taiyo-Yuden-datasheet-17272276.pdf; ComponentLink15URL: https://datasheet.octopart.com:443/EMK107B7105KA-T-Taiyo-Yuden-datasheet-13693549.pdf?src-supplier=_legacy+Avnet; ComponentLink15Description: https://datasheet.octopart.com:443/EMK107B7105KA-T-Taiyo-Yuden-datasheet-13693549.pdf?src-supplier=_legacy+Avnet; ComponentLink16URL: https://datasheet.octopart.com:443/EMK107B7105KA-T-Taiyo-Yuden-datasheet-10851928.pdf?src-supplier=element14; ComponentLink16Description: https://datasheet.octopart.com:443/EMK107B7105KA-T-Taiyo-Yuden-datasheet-10851928.pdf?src-supplier=element14; ComponentLink17URL: https://datasheet.octopart.com:443/EMK107B7105KA-T-Taiyo-Yuden-datasheet-8434558.pdf?src-supplier=element14; ComponentLink17Description: https://datasheet.octopart.com:443/EMK107B7105KA-T-Taiyo-Yuden-datasheet-8434558.pdf?src-supplier=element14; ComponentLink18URL: https://datasheet.octopart.com:443/EMK107B7105KA-T-Taiyo-Yuden-datasheet-10742123.pdf?src-supplier=Factory+Futures; ComponentLink18Description: https://datasheet.octopart.com:443/EMK107B7105KA-T-Taiyo-Yuden-datasheet-10742123.pdf?src-supplier=Factory+Futures
pins: 1, 2